# EAGLE library part CP2102N-A01-GQFN20 (library CP2102N-A01-GQFN20)
Ic Bridge Usb To Uart 20qfn
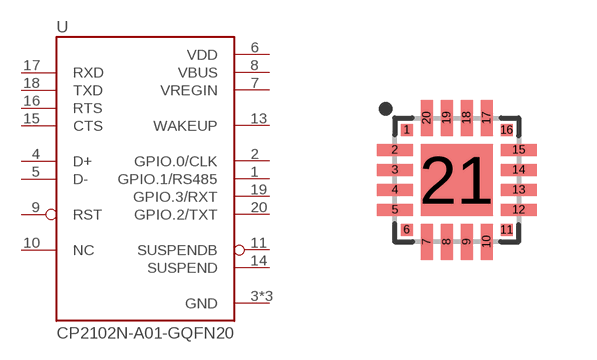
[diagram p0: symbol with the pads of SILABS_QFN20; footprint SILABS_QFN20]

Designator prefix U

## CP2102N-A01-GQFN20 (DESCRIPTION: Usb-Uart Interface Bridge, Qfn-20; DIGI-KEY_PART_NUMBER: 336-3692-ND; DIGI-KEY_PURCHASE_URL: https://www.digikey.com/product-detail/en/silicon-labs/CP2102N-A01-GQFN20/336-3692-ND/6012517?utm_source=snapeda&utm_medium=aggregator&utm_campaign=symbol; MF: Silicon Labs; MP: CP2102N-A01-GQFN20; PACKAGE: QFN-20 Silicon Labs)  [SILABS_QFN20]
1  GPIO.1/RS485
2  GPIO.0/CLK
3  GND  pwr
4  D+
5  D-
6  VDD  pwr
7  VREGIN  pwr
8  VBUS  pwr
9  RST  in
10  NC  nc
11  SUSPENDB  out
12  GND  pwr
13  WAKEUP  in
14  SUSPEND  out
15  CTS  in
16  RTS  out
17  RXD  in
18  TXD  out
19  GPIO.3/RXT
20  GPIO.2/TXT
21  GND  pwr

## Footprint SILABS_QFN20 (pad centres in mm)
smd 0.3 x 0.3: 1 -1.25,1.25; 6 -1.25,-1.25; 11 1.25,-1.25; 16 1.25,1.25
smd 0.9 x 0.3: 2 -1.55,0.75; 3 -1.55,0.25; 4 -1.55,-0.25; 5 -1.55,-0.75; 12 1.55,-0.75; 13 1.55,-0.25; 14 1.55,0.25; 15 1.55,0.75
smd 0.3 x 0.9: 7 -0.75,-1.55; 8 -0.25,-1.55; 9 0.25,-1.55; 10 0.75,-1.55; 17 0.75,1.55; 18 0.25,1.55; 19 -0.25,1.55; 20 -0.75,1.55
smd 1.8 x 1.8: 21 0,0